# Altium footprint library TJ8S06M3LT6L1NQ.PcbLib: 1 footprints
Each footprint in its own frame and in the unit in brackets; x right, y up, seen from the top. Pads: shape width x height; smd on the part's side, far side on the other; paste and mask are expansions set on the pad; w line width, h text height; cw(c..) or ccw(c..) is an arc to the next point about the centre after c.
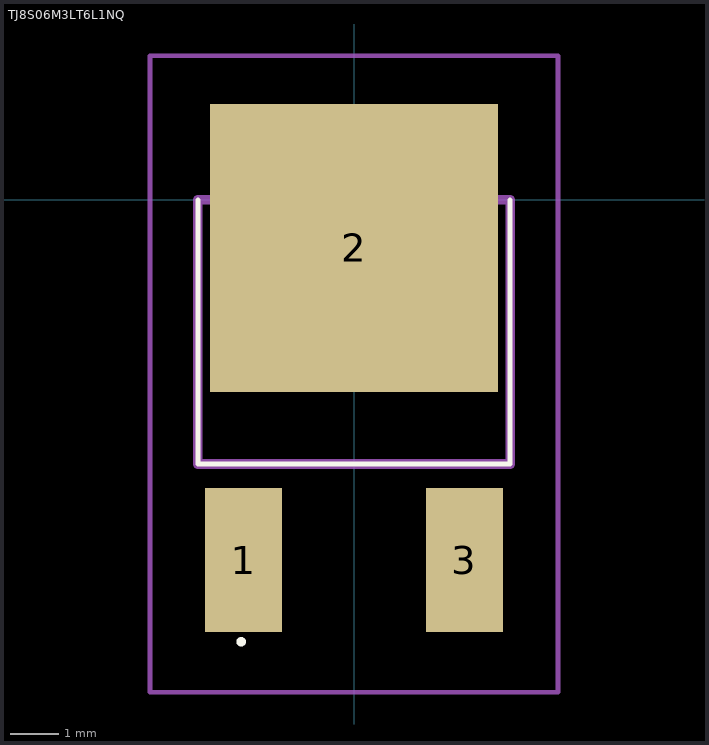
[diagram p0: the footprint, top view; thin cyan lines are the x and y axes]

## TJ8S06M3LT6L1NQ [mm]
pads (3):
  rect 1.6x3 smd: 1(-2.3,-7.5) 3(2.3,-7.5)
  rect 6x6 smd: 2(0,-1)
Top Overlay:
  lines w0.1: -3.25,0 -3.25,-5.5 ; 3.25,0 3.25,-5.5 -3.25,-5.5 ; -3.25,-5.5 -3.25,-5.5 ; -2.4,-9.2 -2.4,-9.2 ; -2.4,-9.2 ccw(c-2.35,-9.2) -2.3,-9.2 ; -2.4,-9.2 cw(c-2.35,-9.2) -2.3,-9.2 ; -2.3,-9.2 -2.3,-9.2
Mechanical 15:
  lines w0.2: -3.25,-5.5 3.25,-5.5 3.25,0 -3.25,0 -3.25,-5.5
Mechanical 20:
  lines w0.1: -4.25,-10.25 4.25,-10.25 4.25,3 -4.25,3 -4.25,-10.25